# EAGLE library part ESP32-WROVER (library ESPkachu)
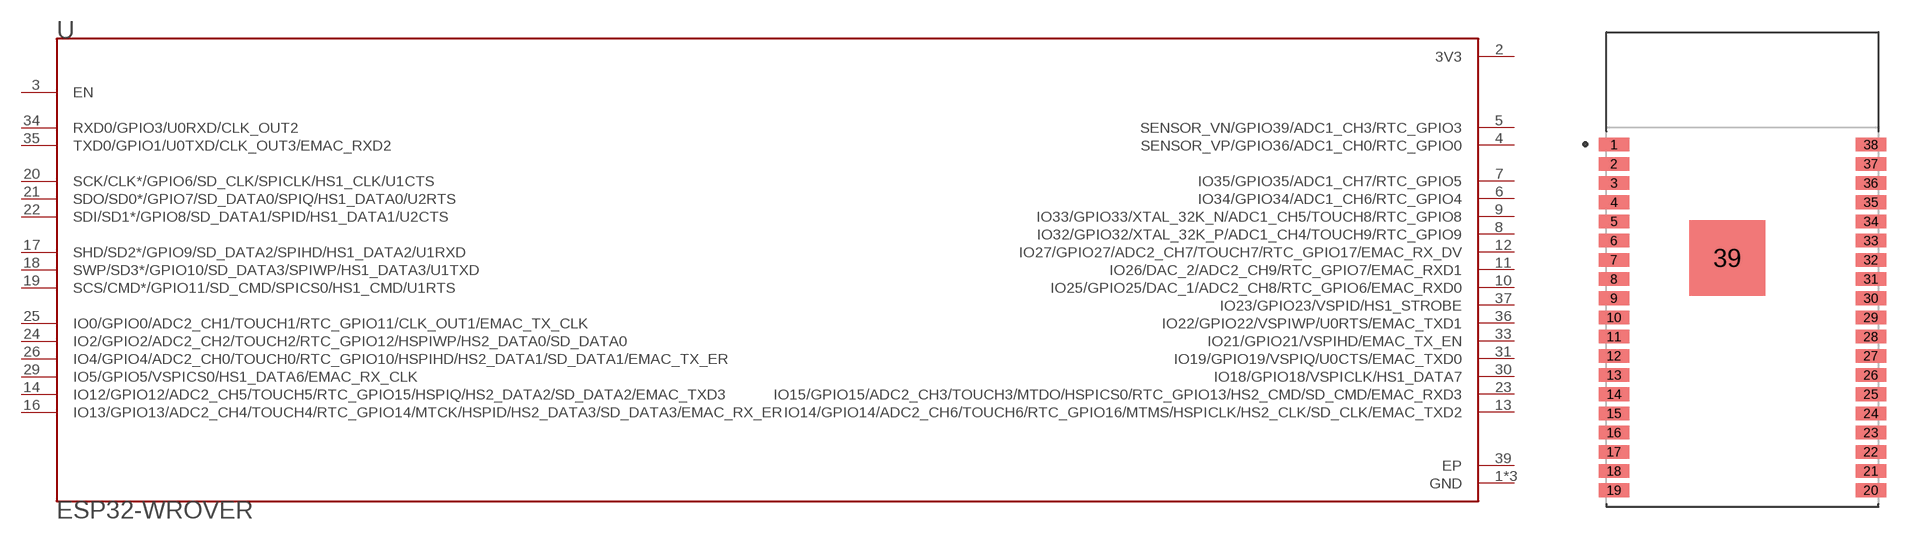
[diagram p1: symbol with the pads of XCVR-ESP32-WROVER; footprint XCVR-ESP32-WROVER]

Designator prefix -

## ESP32-WROVER  [XCVR-ESP32-WROVER]
1  GND  pwr
2  3V3  pwr
3  EN  in
4  SENSOR_VP/GPIO36/ADC1_CH0/RTC_GPIO0
5  SENSOR_VN/GPIO39/ADC1_CH3/RTC_GPIO3
6  IO34/GPIO34/ADC1_CH6/RTC_GPIO4
7  IO35/GPIO35/ADC1_CH7/RTC_GPIO5
8  IO32/GPIO32/XTAL_32K_P/ADC1_CH4/TOUCH9/RTC_GPIO9
9  IO33/GPIO33/XTAL_32K_N/ADC1_CH5/TOUCH8/RTC_GPIO8
10  IO25/GPIO25/DAC_1/ADC2_CH8/RTC_GPIO6/EMAC_RXD0
11  IO26/DAC_2/ADC2_CH9/RTC_GPIO7/EMAC_RXD1
12  IO27/GPIO27/ADC2_CH7/TOUCH7/RTC_GPIO17/EMAC_RX_DV
13  IO14/GPIO14/ADC2_CH6/TOUCH6/RTC_GPIO16/MTMS/HSPICLK/HS2_CLK/SD_CLK/EMAC_TXD2
14  IO12/GPIO12/ADC2_CH5/TOUCH5/RTC_GPIO15/HSPIQ/HS2_DATA2/SD_DATA2/EMAC_TXD3
15  GND  pwr
16  IO13/GPIO13/ADC2_CH4/TOUCH4/RTC_GPIO14/MTCK/HSPID/HS2_DATA3/SD_DATA3/EMAC_RX_ER
17  SHD/SD2*/GPIO9/SD_DATA2/SPIHD/HS1_DATA2/U1RXD
18  SWP/SD3*/GPIO10/SD_DATA3/SPIWP/HS1_DATA3/U1TXD
19  SCS/CMD*/GPIO11/SD_CMD/SPICS0/HS1_CMD/U1RTS
20  SCK/CLK*/GPIO6/SD_CLK/SPICLK/HS1_CLK/U1CTS
21  SDO/SD0*/GPIO7/SD_DATA0/SPIQ/HS1_DATA0/U2RTS
22  SDI/SD1*/GPIO8/SD_DATA1/SPID/HS1_DATA1/U2CTS
23  IO15/GPIO15/ADC2_CH3/TOUCH3/MTDO/HSPICS0/RTC_GPIO13/HS2_CMD/SD_CMD/EMAC_RXD3
24  IO2/GPIO2/ADC2_CH2/TOUCH2/RTC_GPIO12/HSPIWP/HS2_DATA0/SD_DATA0
25  IO0/GPIO0/ADC2_CH1/TOUCH1/RTC_GPIO11/CLK_OUT1/EMAC_TX_CLK
26  IO4/GPIO4/ADC2_CH0/TOUCH0/RTC_GPIO10/HSPIHD/HS2_DATA1/SD_DATA1/EMAC_TX_ER
29  IO5/GPIO5/VSPICS0/HS1_DATA6/EMAC_RX_CLK
30  IO18/GPIO18/VSPICLK/HS1_DATA7
31  IO19/GPIO19/VSPIQ/U0CTS/EMAC_TXD0
33  IO21/GPIO21/VSPIHD/EMAC_TX_EN
34  RXD0/GPIO3/U0RXD/CLK_OUT2
35  TXD0/GPIO1/U0TXD/CLK_OUT3/EMAC_RXD2
36  IO22/GPIO22/VSPIWP/U0RTS/EMAC_TXD1
37  IO23/GPIO23/VSPID/HS1_STROBE
38  GND  pwr
39  EP  pwr

## Footprint XCVR-ESP32-WROVER (pad centres in mm)
smd 2 x 0.9: 1 -8.5,8.26; 2 -8.5,6.99; 3 -8.5,5.72; 4 -8.5,4.45; 5 -8.5,3.18; 6 -8.5,1.91; 7 -8.5,0.64; 8 -8.5,-0.63; 9 -8.5,-1.9; 10 -8.5,-3.17; 11 -8.5,-4.44; 12 -8.5,-5.71; 13 -8.5,-6.98; 14 -8.5,-8.25; 15 -8.5,-9.52; 16 -8.5,-10.79; 17 -8.5,-12.06; 18 -8.5,-13.33; 19 -8.5,-14.6; 20 8.5,-14.6; 21 8.5,-13.33; 22 8.5,-12.06; 23 8.5,-10.79; 24 8.5,-9.52; 25 8.5,-8.25; 26 8.5,-6.98; 27 8.5,-5.71; 28 8.5,-4.44; 29 8.5,-3.17; 30 8.5,-1.9; 31 8.5,-0.63; 32 8.5,0.64; 33 8.5,1.91; 34 8.5,3.18; 35 8.5,4.45; 36 8.5,5.72; 37 8.5,6.99; 38 8.5,8.26
smd 5 x 5: 39 -1,0.76